# Altium schematic symbol library Altium-Schematic Library.SCHLIB: 25 symbols
Pins are listed as number, name and electrical type; pins without a type are passive.

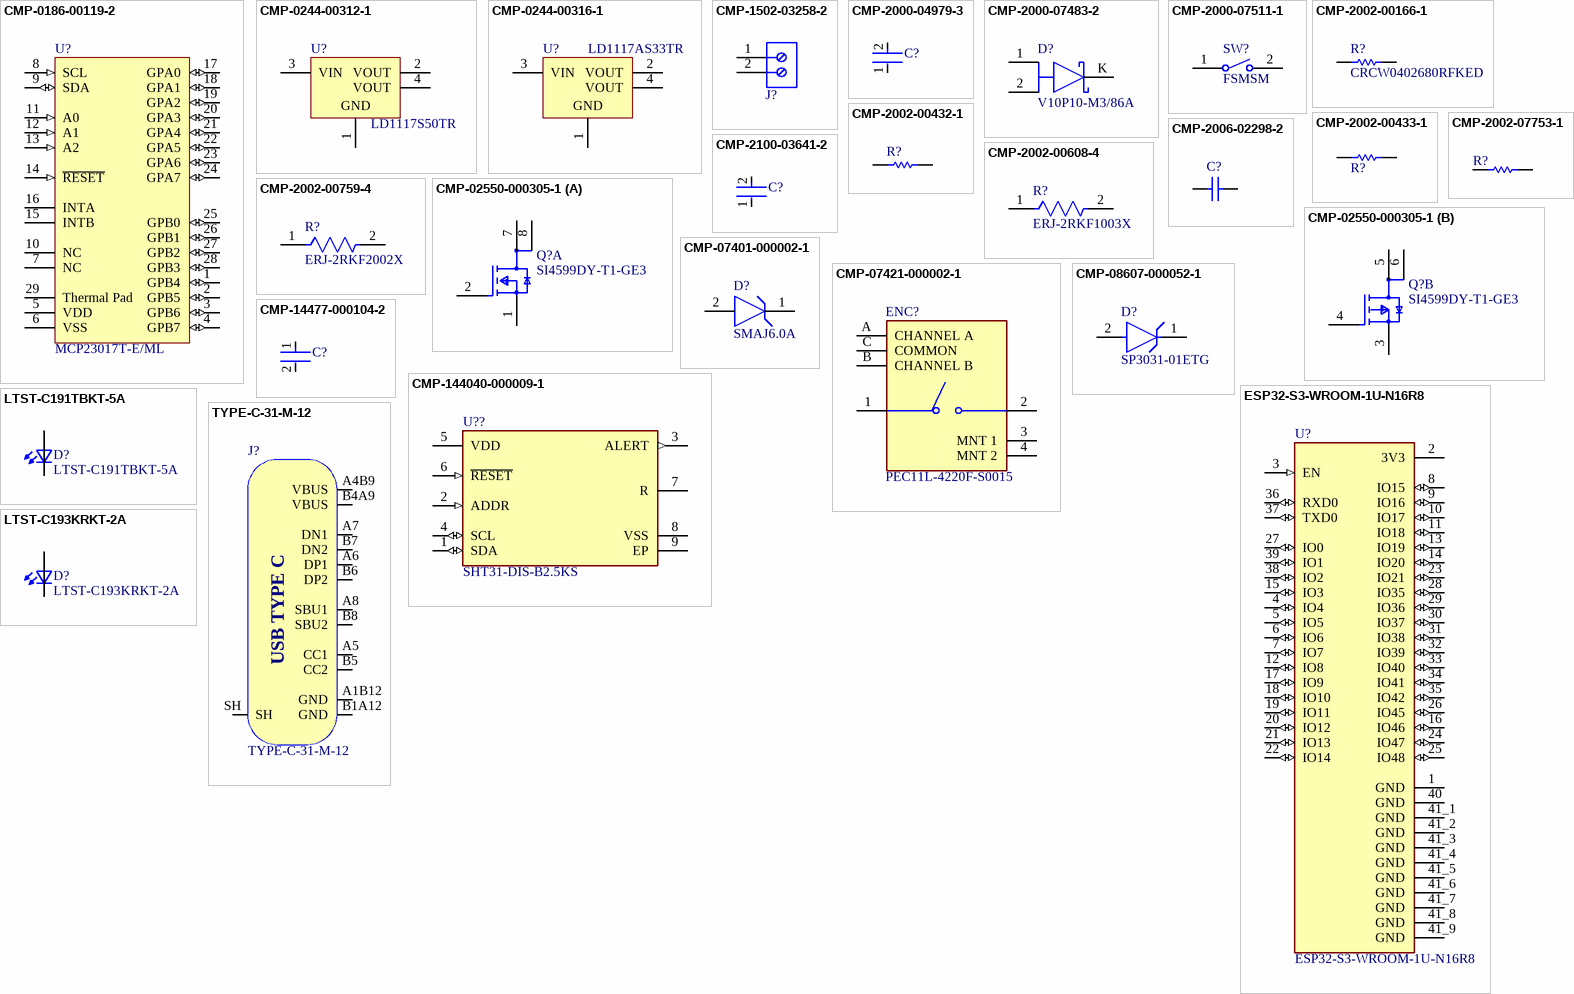
[diagram p0: symbols CMP-0186-00119-2 to TYPE-C-31-M-12]

## CMP-0186-00119-2
designator U?, comment MCP23017T-E/ML
16-Bit I/O Expander with Serial Interface, 28-Pin QFN, Extended Temperature, Tape and Reel; RevisionNote: URLs added.; PackageDescription: 28-Lead Plastic Quad Flat, No Lead Package (ML) - 6x6 mm Body [QFN] with 0.55 mm Contact Length; ComponentLink3Description: Package Specification; ComponentLink2URL: http://ww1.microchip.com/downloads/en/DeviceDoc/21952b.pdf; PackageVersion: revBB, Aug-2009; PackageReference: QFN-ML28; ComponentLink2Description: Datasheet; ComponentLink1URL: http://www.microchip.com/; DatasheetVersion: revB, Feb-2007; ComponentLink3URL: http://www.microchip.com/stellent/groups/techpub_sg/documents/packagingspec/en012702.pdf; Code_JEDEC: MO-220; ComponentLink1Description: Manufacturer URL
footprint QFN-ML28_M (QFN, 28-Leads, Body 6x6mm, Pitch 0.65mm, Thermal Pad 4.2x4.2mm, IPC Low Density)
footprint QFN-ML28_N (QFN, 28-Leads, Body 6x6mm, Pitch 0.65mm, Thermal Pad 4.2x4.2mm, IPC Medium Density)
footprint QFN-ML28_L (QFN, 28-Leads, Body 6x6mm, Pitch 0.65mm, Thermal Pad 4.2x4.2mm, IPC High Density)
pins: 1 GPB4 (io), 2 GPB5 (io), 3 GPB6 (io), 4 GPB7 (io), 5 VDD (power), 6 VSS (power), 7 NC, 8 SCL (in), 9 SDA (io), 10 NC, 11 A0 (in), 12 A1 (in), 13 A2 (in), 14 ~{RESET} (in), 15 INTB (oc), 16 INTA (oc), 17 GPA0 (io), 18 GPA1 (io), 19 GPA2 (io), 20 GPA3 (io), 21 GPA4 (io), 22 GPA5 (io), 23 GPA6 (io), 24 GPA7 (io), 25 GPB0 (io), 26 GPB1 (io), 27 GPB2 (io), 28 GPB3 (io), 29 Thermal Pad

## CMP-0244-00312-1
designator U?, comment LD1117S50TR
Fixed Low Drop Positive Voltage Regulator, 5V, 4-Pin SOT-223, Tape and Reel; ComponentLink1URL: http://www.st.com; DatasheetVersion: 1/11/2011; PackageDescription: 4-Pin SOT-223 Package, 6.5 x 3.5 mm Body, 2.3 mm Pitch, 7 mm Lead Span; ComponentLink2URL: http://www.st.com/internet/com/TECHNICAL_RESOURCES/TECHNICAL_LITERATURE/DATASHEET/CD00000544.pdf; ComponentLink1Description: Manufacturer URL; PackageReference: SOT-223; PackageVersion: 2010; ComponentLink2Description: Datasheet
footprint SOT-223_L (SOT223, 4-Leads, Body 6.5x3.5mm, Pitch 2.3mm, Lead Span 7mm, IPC High Density)
footprint SOT-223_N (SOT223, 4-Leads, Body 6.5x3.5mm, Pitch 2.3mm, Lead Span 7mm, IPC Medium Density)
footprint SOT-223_M (SOT223, 4-Leads, Body 6.5x3.5mm, Pitch 2.3mm, Lead Span 7mm, IPC Low Density)
pins: 1 GND (power), 2 VOUT (power), 3 VIN (power), 4 VOUT (power)

## CMP-0244-00316-1
designator U?, comment LD1117AS33TR
1A, Low Drop Positive Voltage Regulator, 3.3V, 4-Pin SOT-223, Tape and Reel; ComponentLink1Description: Manufacturer URL; DatasheetVersion: 2/12/2011; PackageVersion: 2010; ComponentLink1URL: http://www.st.com; ComponentLink2Description: Datasheet; ComponentLink2URL: http://www.st.com/internet/com/TECHNICAL_RESOURCES/TECHNICAL_LITERATURE/DATASHEET/CD00002116.pdf; PackageDescription: 4-Pin SOT-223 Package, 6.5 x 3.5 mm Body, 2.3 mm Pitch, 7 mm Lead Span; PackageReference: SOT-223
footprint SOT-223_M (SOT223, 4-Leads, Body 6.5x3.5mm, Pitch 2.3mm, Lead Span 7mm, IPC Low Density)
footprint SOT-223_L (SOT223, 4-Leads, Body 6.5x3.5mm, Pitch 2.3mm, Lead Span 7mm, IPC High Density)
footprint SOT-223_N (SOT223, 4-Leads, Body 6.5x3.5mm, Pitch 2.3mm, Lead Span 7mm, IPC Medium Density)
pins: 1 GND (power), 2 VOUT (power), 3 VIN (power), 4 VOUT (power)

## CMP-1502-03258-2
designator J?, comment 691102710002  (value not drawn)
NexarPartId: 8917706; Number of Levels: 1; Number of Positions Per Level: 2; Current: 15A; Voltage: 300V; Pitch: 5.0038mm; Plating: Steel; Stripping Length: -6mm; Wire Gauge (Min): 14AWG; Wire Gauge (Max): 22AWG; Length: 7.5mm; Contact Material: Brass; Contact Plating: Tin; Packaging: Box; Number of Pins: 2; Voltage Rating: 300V; Termination: Screw; Number of Contacts: 2; Color: Blue; Current Rating: 15A; Mount: Through Hole; Max Operating Temperature: 105°C; Min Operating Temperature: -40°C; REACH SVHC: Unknown; Height: 13.4mm; Width: 11.2mm; Housing Material: Nylon; RoHS: Compliant; Wire/Cable Gauge: 22AWG; Lead Pitch: 5mm
footprint 691102710002 (Conn Terminal Block 2 POS 5mm Solder ST Thru-Hole 15A Box)
pins: 1, 2

## CMP-2000-04979-3
designator C?, comment C1608X5R1A106K080AC  (value not drawn)
Multilayer Ceramic Capacitors 10μF ±10% 10V X5R SMD 0603; Capacitance: 10uF; Dielectric Material: Ceramic; Construction: Flat; Height: 0.8mm; Thickness: 0.035inch; Case Code (Metric): 1608; Radiation Hardening: No; Number of Pins: 2; Voltage Rating (DC): 10V; Depth: 0.8mm; Voltage: 10V; RoHS Compliant: Yes; Voltage Rating: 10V; Package Quantity: 1; Resistor Type: Ceramic; Termination: SMD/SMT; Lead Free: Lead Free; REACH SVHC: No SVHC; Tolerance: 10%; Mount: Surface Mount; Series: C; Packaging: Tape and Reel; Width: 0.8mm; Dielectric: X5R; Weight: 7.1E-05oz; Length: 1.6mm; Max Operating Temperature: 85°C; Case Code (Imperial): 0603; Case/Package: 0603; Min Operating Temperature: -55°C
footprint FP-C1608-080-0_1-MFG
footprint FP-C1608-080-0_1-IPC_C
footprint FP-C1608-080-0_1-IPC_A
footprint FP-C1608-080-0_1-IPC_B
pins: 1, 2

## CMP-2000-07483-2
designator D?, comment V10P10-M3/86A
DIODE SCHOTTKY 100V 10A TO277A; Manufacturer: Vishay; Max Junction Temp: +175°C; Max Surge Forward Current: 180A; Peak Reverse Current: 30.4uA; Digikey Description: DIODE SCHOTTKY 100V 10A TO277A; Manufacturer Part Number: V10P10-M3/86A; Device Class L1: Discrete Semiconductors; ComponentLink2Description: Datasheet; Reverse Voltage: 100V; Device Class L2: Diodes; Temperature Range Low: -40°C; Automotive: No; Package: 95570; Mouser Description: Diode Schottky 100V 10A 3-Pin(2+Tab) SMPC T/R; Lead Free: Yes; Footprint Url: https://www.vishay.com/docs/95570/to-277asmpc.pdf; Octopart: https://octopart.com/v10p10-m3%2F86a-vishay-42522004; Forward Current: 10A; Device Class L3: Schottky Diodes; RoHS: TRUE; Temperature Range High: +175°C; Temperature: -40°C to +175°C; ComponentLink2URL: http://www.vishay.com/docs/89006/v10p10.pdf; Category: Diode; Max Repetitive Reverse Voltage: 100V; Height: 1.2mm
footprint FP-95570-MFG
pins: 1 A, 2 A, K C

## CMP-2000-07511-1
designator SW?, comment FSMSM
FSMSM Push Button Switch, 50 mA, -35 to 85 degC, 2-Pin SMD, RoHS, Bulk; Manufacturer: TE Connectivity; Actuator Length: 1.07mm; Electrical Life: 20000Cycles; Actuator Material: Polyamide; Current Rating: 50mA; Illumination Type: Illuminated; Voltage Rating (DC): 24V; Contact Resistance: 100mOhm; Case\/Package: SMD/SMT; Operating Force: 180gf; Switch Travel: 0.25mm; Max Voltage Rating (DC): 12V; Throw Configuration: SPST; Packaging: LoosePiece; Max Operating Temperature: 85degC; ELV: Compliant; Package Description: 2-Pin Surface Mount Device, Body 6 x 3.5 mm, Pitch 9.19 mm; RoHSCompliant: true; Manufacturer URL: http://www.te.com/; Contact Plating: Silver; Contact Material: Brass; Mounting Technology: SurfaceMount; Contact Current Rating: 50mA; Datasheet Version: Rev. C2, 08/2014; Datasheet URL: http://www.te.com/commerce/DocumentDelivery/DDEController?Action=showdoc&DocId=Customer+Drawing%7F1437566-3%7FC2%7Fpdf%7FEnglish%7FENG_CD_1437566-3_C2_1437566_3_1_c.dwg.pdf%7F1437566-3; Mechanical Life: 20000Cycles; Package Reference: FSMSM; REACH SVHC: Unknown; Orientation: Straight; Min Operating Temperature: -35degC; Lead Free: LeadFree; Termination: GullWing; Package Quantity: 1000; Mount: SurfaceMount
footprint TECO-FSMSM-2_V (SMD, 2-Leads, Body 6x3.5mm, Pitch 9.19mm)
pins: 1, 2

## CMP-2002-00166-1
designator R?, comment CRCW0402680RFKED
Manufacturer: Vishay Dale; Part Number: CRCW0402680RFKED
footprint RESC1005X40X25ML05T05 (Chip Resistor, 2-Leads, Body 1.00x0.50mm, IPC Low Density)
footprint RESC1005X40X25LL05T05 (Chip Resistor, 2-Leads, Body 1.00x0.50mm, IPC High Density)
footprint RESC1005X40X25NL05T05 (Chip Resistor, 2-Leads, Body 1.00x0.50mm, IPC Medium Density)
pins: 1, 2
1 alternate drawing of the same symbol

## CMP-2002-00432-1
designator R?, comment ERJ-2GEJ102X  (value not drawn)
Manufacturer: Panasonic; Part Number: ERJ-2GEJ102X
footprint RESC1005X40X25NL05T05 (Chip Resistor, 2-Leads, Body 1.00x0.50mm, IPC Medium Density)
footprint RESC1005X40X25ML05T05 (Chip Resistor, 2-Leads, Body 1.00x0.50mm, IPC Low Density)
footprint RESC1005X40X25LL05T05 (Chip Resistor, 2-Leads, Body 1.00x0.50mm, IPC High Density)
pins: 1, 2
1 alternate drawing of the same symbol

## CMP-2002-00433-1
designator R?, comment ERJ-2GEJ103X  (value not drawn)
Manufacturer: Panasonic; Part Number: ERJ-2GEJ103X
footprint RESC1005X40X25ML05T05 (Chip Resistor, 2-Leads, Body 1.00x0.50mm, IPC Low Density)
footprint RESC1005X40X25NL05T05 (Chip Resistor, 2-Leads, Body 1.00x0.50mm, IPC Medium Density)
footprint RESC1005X40X25LL05T05 (Chip Resistor, 2-Leads, Body 1.00x0.50mm, IPC High Density)
pins: 1, 2
1 alternate drawing of the same symbol

## CMP-2002-00608-4
designator R?, comment ERJ-2RKF1003X
RES SMD 100K OHM 1% 1/10W 0402; Resistance: 100kR; Voltage Rating (DC): 50V; Power Rating: 100mW; Temperature Coefficient: 100ppm/°C; Case/Package: 0402; Length: 1mm; Package Quantity: 1; Radiation Hardening: No; Case Code (Metric): 1005; Contact Plating: Tin; Mount: Surface Mount; Depth: 0.5mm; Max Operating Temperature: 155°C; Lead Free: Lead Free; Width: 0.5mm; Composition: Thick Film; Case Code (Imperial): 0402; Tolerance: 1%; Termination: SMD/SMT; Number of Pins: 2; Height: 0.35mm; Voltage Rating: 50V; Military Standard: Not; REACH SVHC: No SVHC; Packaging: Tape and Reel; Min Operating Temperature: -55°C; Max Power Dissipation: 100mW; Features: Automotive AEC-Q200; Number of Terminations: 2
footprint FP-ERJ2RK-IPC_C
footprint FP-ERJ2RK-IPC_A
footprint FP-ERJ2RK-IPC_B
footprint FP-ERJ2RK-MFG
pins: 1, 2

## CMP-2002-00759-4
designator R?, comment ERJ-2RKF2002X
RES SMD 20K OHM 1% 1/10W 0402; Resistance: 20kR; Voltage Rating (DC): 50V; Power Rating: 100mW; Temperature Coefficient: 100ppm/°C; Radiation Hardening: No; Case/Package: 0402; Case Code (Metric): 1005; Min Operating Temperature: -55°C; Termination: SMD/SMT; Package Quantity: 1; Length: 1mm; Case Code (Imperial): 0402; Lead Free: Lead Free; Height: 0.35mm; Max Operating Temperature: 155°C; Depth: 0.5mm; Number of Terminations: 2; Military Standard: Not; Max Power Dissipation: 100mW; Tolerance: 1%; Composition: Thick Film; Weight: 2.8E-05oz; Features: Automotive AEC-Q200; Voltage Rating: 50V; Contact Plating: Tin; REACH SVHC: No SVHC; Width: 0.02inch; Packaging: Cut Tape; Mount: Surface Mount
footprint FP-ERJ2RK-MFG
footprint FP-ERJ2RK-IPC_C
footprint FP-ERJ2RK-IPC_A
footprint FP-ERJ2RK-IPC_B
pins: 1, 2

## CMP-2002-07753-1
designator R?, comment RC0402FR-075K1L  (value not drawn)
Manufacturer: Yageo / Phycomp; Part Number: RC0402FR-075K1L
footprint RESC1005X40X25NL05T10 (Chip Resistor, 2-Leads, Body 1.00x0.50mm, IPC Medium Density)
footprint RESC1005X40X25ML05T10 (Chip Resistor, 2-Leads, Body 1.00x0.50mm, IPC Low Density)
footprint RESC1005X40X25LL05T10 (Chip Resistor, 2-Leads, Body 1.00x0.50mm, IPC High Density)
pins: 1, 2
1 alternate drawing of the same symbol

## CMP-2006-02298-2
designator C?, comment C0603C105K4RACTU  (value not drawn)
Manufacturer: Kemet; Part Number: C0603C105K4RACTU
footprint CAPC1608X90X35LL15T15 (Chip Capacitor, 2-Leads, Body 1.60x0.81mm, IPC High Density)
footprint CAPC1608X90X35NL15T15 (Chip Capacitor, 2-Leads, Body 1.60x0.81mm, IPC Medium Density)
footprint CAPC1608X90X35ML15T15 (Chip Capacitor, 2-Leads, Body 1.60x0.81mm, IPC Low Density)
pins: 1, 2
1 alternate drawing of the same symbol

## CMP-2100-03641-2
designator C?, comment GRM155R71C104KA88D  (value not drawn)
CAP CER 0.1UF 16V X7R 0402; Manufacturer: Murata; Standoff Height: 0mm; Tolerance: 10%; Voltage Rating: 16Vdc; Material: Ceramic; Capacitance: 0.10μF; Value: 0.10μF; RoHS: TRUE; Manufacturer Part Number: GRM155R71C104KA88D; Temperature Characteristic: X7R; Octopart: https://octopart.com/grm155r71c104ka88d-murata-196880; Digikey Description: CAP CER 0.1UF 16V X7R 0402; Device Class L3: Ceramic Capacitors; Height: 0.55mm; ComponentLink2Description: Datasheet; Temperature Range Low: -55°C; Ipc Land Pattern Name: CAPC10050X219; ComponentLink2URL: https://search.murata.co.jp/Ceramy/image/img/A01X/G101/ENG/GRM155R71H471KA01-01A.pdf; Device Class L1: Passive Components; Lead Free: yes; Category: Cap; Package: GRM15; Temperature: -55°C to +125°C; Device Class L2: Capacitors; Temperature Range High: +125°C; Mouser Description: 0402 0.1 uF 16V ±10 % Tolerance X7R SMT Multilayer Ceramic Capacitor
footprint FP-GRM15-MFG
footprint FP-GRM15-IPC_C
footprint FP-GRM15-IPC_B
footprint FP-GRM15-IPC_A
pins: 1, 2

## CMP-02550-000305-1
designator Q?, comment SI4599DY-T1-GE3
MOSFET N/P-CH 40V 6.8A 8SOIC; Number of Elements: 2; Fall Time: 13ns; Input Capacitance: 640pF; Polarity: N-CHANNEL; Turn-On Delay Time: 44ns; Rds On Max: 35.5mR; Turn-Off Delay Time: 30ns; Power Dissipation: 2W; Max Power Dissipation: 3.1W; FET Type: N and P-Channel; Gate to Source Voltage (Vgs): 20V; On-State Resistance: 45mR; Rise Time: 33ns; Drain to Source Resistance: 37mR; Threshold Voltage: 1.4V; Weight: 0.019048oz; Length: 5mm; Max Operating Temperature: 150°C; Min Operating Temperature: -55°C; Continuous Drain Current (ID): 6.8A; Height: 1.55mm; Number of Pins: 8; Mount: Surface Mount; Radiation Hardening: No; Lead Free: Lead Free; Case/Package: SOIC; Packaging: Tape and Reel; Drain to Source Breakdown Voltage: 40V; Series: TrenchFET®; Width: 4mm; Contact Plating: Tin; Drain-source On Resistance-Max: 45mR; RoHS Compliant: Yes; Drain to Source Voltage (Vdss): 40V; Package Quantity: 2500; Number of Channels: 2
footprint FP-C-06527-IPC_B
footprint FP-C-06527-IPC_C
footprint FP-C-06527-IPC_A
footprint FP-C-06527-MFG
part A pins: 1 S1, 2 G1, 7 D1, 8 D1
part B pins: 3 S2, 4 G2, 5 D2, 6 D2

## CMP-07401-000002-1
designator D?, comment SMAJ6.0A
TVS DIODE 6V 10.3V SMA; Manufacturer: Bourns Inc.; Max Junction Temp: +150°C; Peak Pulse Power: 400W; Breakdown Voltage: 6.67V; Peak Pulse Current: 38.8A; Direction: Unidirectional; Number Of Channels: 1; Clamping Voltage: 10.3V; Digikey Description: TVS DIODE 6V 10.3V SMA; Automotive: No; Octopart: https://octopart.com/smaj6.0a-bourns-12809397; Package: SMA; Temperature Range High: +150°C; Manufacturer Part Number: SMAJ6.0A; Device Class L2: TVS Diodes; Temperature Range Low: -55°C; ComponentLink2URL: https://www.bourns.com/docs/product-datasheets/smaj.pdf?sfvrsn=d2266a96_11; Lead Free: Yes; Device Class L1: Circuit Protection; Mouser Description: Diode TVS Single Uni-Dir 6V 400W 2-Pin SMA T/R; RoHS: TRUE; Height: 2.29mm; Category: Diode; Temperature: -55°C to +150°C; Reverse Standoff Voltage: 6V; ComponentLink2Description: Datasheet; Device Class L3: unset
footprint FP-SMA-MFG
pins: 1 C, 2 A

## CMP-07421-000002-1
designator ENC?, comment PEC11L-4220F-S0015
ROTARY ENCODER MECHANICAL 15PPR; Manufacturer: Bourns Inc.; Conn Orientation: Vertical; Voltage Rating Dc: 5V; Detent: Yes; Pulses Per Rev: 15; Current Rating: 10mA; Number Of Circuits: 1; Encoder Type: Incremental; Mouser Description: Encoders FLATTED SHAFT PUSH SWTCH 30DETENTS; Temperature Range High: +80°C; Device Class L1: Electromechanical; Octopart: https://octopart.com/pec11l-4220f-s0015-bourns-19504852; Height: 25.3mm; Device Class L2: Switches; Temperature: -25°C to +80°C; Device Class L3: Encoders; Lead Free: Yes; Manufacturer Part Number: PEC11L-4220F-S0015; Package: 0; ComponentLink2Description: Datasheet; Automotive: No; ComponentLink2URL: https://www.bourns.com/docs/product-datasheets/pec11l.pdf?sfvrsn=7b1089f1_8; Temperature Range Low: -25°C; Category: Enc; RoHS: TRUE; Digikey Description: ROTARY ENCODER MECHANICAL 15PPR
footprint FP-PEC11L-4220F-S0015-MFG
pins: 1, 2, 3 MNT 1, 4 MNT 2, A CHANNEL A, B CHANNEL B, C COMMON

## CMP-08607-000052-1
designator D?, comment SP3031-01ETG
TVS DIODE 5V 7.5V SOD882; Manufacturer: Littelfuse Inc; Capacitance: 0.8pF; Number Of Channels: 1; Value: 0.8pF; Automotive Grade: Grade 1; Direction: Unidirectional; Peak Pulse Current: 5A; Breakdown Voltage: 6V; Device Class L2: TVS Diodes; Temperature: -40°C to +125°C; ComponentLink2Description: Datasheet; Device Class L3: unset; Height: 0.6mm; RoHS: TRUE; Device Class L1: Circuit Protection; Reverse Standoff Voltage: 5V; Octopart: https://octopart.com/sp3031-01etg-littelfuse-22577615; Category: Diode; Lead Free: Yes; Manufacturer Part Number: SP3031-01ETG; Package: SP3031; Temperature Range High: +125°C; Automotive: Yes; Mouser Description: SP3031 Series 6 V 0.8 pF Uni-Directional TVS Diode Array - SOD-882; ComponentLink2URL: https://www.littelfuse.com/~/media/electronics/datasheets/tvs_diode_arrays/littelfuse_tvs_diode_array_sp3031_datasheet.pdf.pdf; Digikey Description: TVS DIODE 5V 7.5V SOD882; Temperature Range Low: -40°C; Clamping Voltage: 7.5V
footprint FP-SP3031-MFG
pins: 1 C, 2 A

## CMP-14477-000104-2
designator C?, comment EMK105BJ105KV-F  (value not drawn)
None; Tolerance: 10%; Voltage Rating: 16V; Dielectric: X5R; Capacitance: 1uF; Packaging: Tape and Reel; Depth: 0.5mm; Mount: Surface Mount; Thickness: 0.022inch; Package Quantity: 1; Min Operating Temperature: -55°C; Series: M; Voltage Rating (DC): 16V; Termination: SMD/SMT; Case/Package: 0402; Number of Pins: 2; Case Code (Imperial): 0402; Length: 1mm; Halogen Free: Halogen Free; Case Code (Metric): 1005; Width: 0.02inch; RoHS Compliant: Yes; Radiation Hardening: No; Max Operating Temperature: 85°C; Height: 0.5mm; Construction: Flat
footprint FP-0402-L_1_0_0_05-W_0_5-IPC_A
footprint FP-0402-L_1_0_0_05-W_0_5-IPC_B
footprint FP-0402-L_1_0_0_05-W_0_5-IPC_C
footprint FP-0402-L_1_0_0_05-W_0_5-MFG
pins: 1, 2

## CMP-144040-000009-1
designator U??, comment SHT31-DIS-B2.5KS
SENSOR HUMID/TEMP 5V I2C 2% SMD; RoHS Compliant: Yes
footprint FP-SHT31-DIS-B2_5KS-MFG
pins: 1 SDA (io), 2 ADDR (in), 3 ALERT (out), 4 SCL (io), 5 VDD (power), 6 ~{RESET} (in), 7 R, 8 VSS (power), 9 EP (power)

## ESP32-S3-WROOM-1U-N16R8
designator U?
Bluetooth, WiFi 802.11b/g/n, Bluetooth v5.0 Transceiver Module 2.4GHz Antenna Not Included, U.FL Surface Mount; MF: Espressif Systems; Package: None; Price: None; Value: *; SnapEDA_Link: https://www.snapeda.com/parts/ESP32-S3-WROOM-1U-N16R8/Espressif+Systems/view-part/?ref=snap; MP: ESP32-S3-WROOM-1U-N16R8; Availability: Unavailable; Check_prices: https://www.snapeda.com/parts/ESP32-S3-WROOM-1U-N16R8/Espressif+Systems/view-part/?ref=eda
footprint XCVR_ESP32-S3-WROOM-1U-N16R8
pins: 1 GND (power), 2 3V3 (power), 3 EN (in), 4 IO4 (io), 5 IO5 (io), 6 IO6 (io), 7 IO7 (io), 8 IO15 (io), 9 IO16 (io), 10 IO17 (io), 11 IO18 (io), 12 IO8 (io), 13 IO19 (io), 14 IO20 (io), 15 IO3 (io), 16 IO46 (io), 17 IO9 (io), 18 IO10 (io), 19 IO11 (io), 20 IO12 (io), 21 IO13 (io), 22 IO14 (io), 23 IO21 (io), 24 IO47 (io), 25 IO48 (io), 26 IO45 (io), 27 IO0 (io), 28 IO35 (io), 29 IO36 (io), 30 IO37 (io), 31 IO38 (io), 32 IO39 (io), 33 IO40 (io), 34 IO41 (io), 35 IO42 (io), 36 RXD0 (io), 37 TXD0 (io), 38 IO2 (io), 39 IO1 (io), 40 GND (power), 41_1 GND (power), 41_2 GND (power), 41_3 GND (power), 41_4 GND (power), 41_5 GND (power), 41_6 GND (power), 41_7 GND (power), 41_8 GND (power), 41_9 GND (power)

## LTST-C191TBKT-5A
designator D?
Blue 473nm LED Indication - Discrete 2.8V 0603 _1608 Metric_; MF: Lite-On Inc.; Package: 0603 Lite-On; Price: None; Availability: Unavailable; MP: LTST-C191TBKT-5A; SnapEDA_Link: https://www.snapeda.com/parts/LTST-C191TBKT-5A/Lite-On%20Inc./view-part/266129/?ref=snap; Value: *
footprint 0603
pins: 1 K2, 2 A2

## LTST-C193KRKT-2A
designator D?
Red 629nm LED Indication - Discrete 1.9V 0603 _1608 Metric_; MF: Lite-On Inc.; Digi-Key_Part_Number: 160-1909-1-ND; Value: *; MP: LTST-C193KRKT-2A; Package: 0603 Lite-On; SnapEDA_Link: https://www.snapeda.com/parts/LTST-C193KRKT-2A/Lite-On%20Inc./view-part/565233/?ref=snap; Digi-Key_Purchase_URL: https://www.digikey.com/product-detail/en/lite-on-inc/LTST-C193KRKT-2A/160-1909-1-ND/3694456?utm_source=snapeda&utm_medium=aggregator&utm_campaign=symbol
footprint 0603
pins: 1 K2, 2 A2

## TYPE-C-31-M-12
designator J?
USB Type C Connector Horizontal SMT; Manufacturer: Koren Hroparts; Manufacturer Part Number: TYPE-C-31-M-12
footprint TYPE-C-31-M-12
pins: A1B12 GND (power), A4B9 VBUS (power), A5 CC1, A6 DP1 (io), A7 DN1 (io), A8 SBU1 (io), B1A12 GND (power), B4A9 VBUS (power), B5 CC2 (hiz), B6 DP2 (io), B7 DN2 (io), B8 SBU2 (io), SH (power)
text: USB TYPE C